# EAGLE library part A3901 (library dawidkulpa_dev)
Motor Driver Dual, Full Bridge, Low Voltage
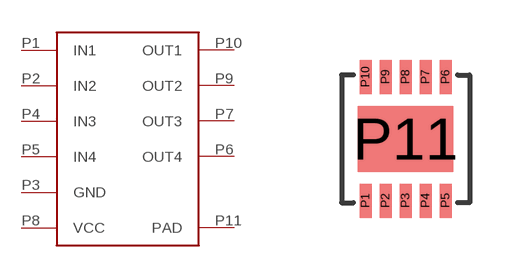
[diagram p17: symbol with the pads of DFN10-3X3; footprint DFN10-3X3]

Designator prefix -

## A3901  [DFN10-3X3]
P1  IN1
P2  IN2
P3  GND
P4  IN3
P5  IN4
P6  OUT4
P7  OUT3
P8  VCC
P9  OUT2
P10  OUT1
P11  PAD

## Footprint DFN10-3X3 (pad centres in mm)
smd 0.3 x 0.85: P1 -1,-1.55; P2 -0.5,-1.55; P3 0,-1.55; P4 0.5,-1.55; P5 1,-1.55; P6 1,1.55; P7 0.5,1.55; P8 0,1.55; P9 -0.5,1.55; P10 -1,1.55
smd 2.38 x 1.65: P11 0,0